# Altium schematic symbol library NX3225SA.Schlib: 1 symbol
Pins are listed as number, name and electrical type; pins without a type are passive.

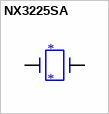
[diagram p0: symbol NX3225SA]

## NX3225SA
designator *
pins: 1, 3